# Altium footprint library IC_On_Semiconductor_MC74HC595ADR2G_eec_IPC_A.PcbLib: 1 footprints
Each footprint in its own frame and in the unit in brackets; x right, y up, seen from the top. Pads: shape width x height; smd on the part's side, far side on the other; paste and mask are expansions set on the pad; w line width, h text height; cw(c..) or ccw(c..) is an arc to the next point about the centre after c.
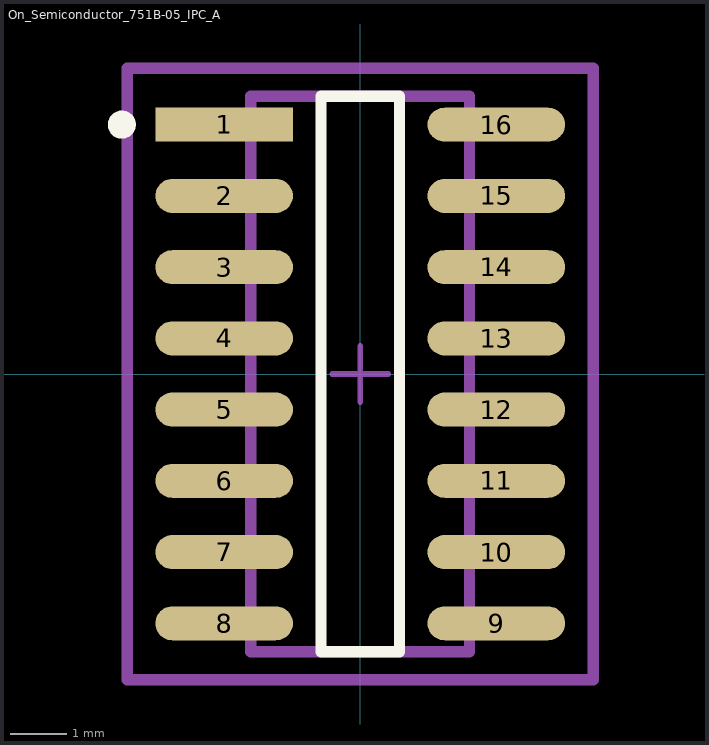
[diagram p0: the footprint, top view; thin cyan lines are the x and y axes]

## On_Semiconductor_751B-05_IPC_A [mil]
pads (16):
  rect 96.62x23.89 smd paste+0 mask+0: 1(-95.51,175)
  rrect100% 96.62x23.89 smd paste+0 mask+0: 2(-95.51,125) 3(-95.51,75) 4(-95.51,25) 5(-95.51,-25) 6(-95.51,-75) 7(-95.51,-125) 8(-95.51,-175) 9(95.51,-175) 10(95.51,-125) 11(95.51,-75) 12(95.51,-25) 13(95.51,25) 14(95.51,75) 15(95.51,125) 16(95.51,175)
Top Overlay:
  circle w9.84: c-167.32,175 r4.92
  lines w7.87: -27.52,-194.88 27.52,-194.88 27.52,194.88 -27.52,194.88 -27.52,-194.88
Mechanical 10:
  lines w7.87: -163.51,-214.57 163.51,-214.57 163.51,214.57 -163.51,214.57 -163.51,-214.57
  text ".Designator" at 0,0 h39.37
Mechanical 12:
  lines w7.87: -76.77,-194.88 76.77,-194.88 76.77,194.88 -76.77,194.88 -76.77,-194.88
Mechanical 15:
  lines w3.94: -19.68,0 19.68,0 ; 0,-19.68 0,19.68
  lines w7.87: -163.51,-214.57 163.51,-214.57 163.51,214.57 -163.51,214.57 -163.51,-214.57
3D body "IC_On_Semiconductor_MC74HC595ADR2G_eec.STEP": height 10, standoff 0, extent -163.51,-214.57 163.51,214.57